# Altium schematic symbol library EST227M025AG3AA.SchLib: 1 symbol
Pins are listed as number, name and electrical type; pins without a type are passive.

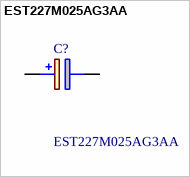
[diagram p0: symbol EST227M025AG3AA]

## EST227M025AG3AA
designator C?
EST, Aluminum, Aluminum Electrolytic, 220 uF, 20%, 25 VDC, -40/+105C, 105C, -40C, 105C, 7,000 Hrs, 14 % , 200 mOhms, 55 uA, 2, 3, 8mm, 11mm, Lead Spacing = 3.5mm, 20mm, 6000; Manufacturer_Name: KEMET; Geometry.Height: 12.5mm; Mouser Part Number: 80-EST227M025AG3AA; Mouser Price/Stock: https://www.mouser.co.uk/ProductDetail/KEMET/EST227M025AG3AA?qs=gt1LBUVyoHnyrm3x6X1rbg%3D%3D; Manufacturer_Part_Number: EST227M025AG3AA; Datasheet Link: https://content.kemet.com/datasheets/KEM_A4010_EST.pdf
footprint CAPPRD350W60D800H1250
pins: 1 +, 2 -